# Altium schematic symbol library Motor_Driver_Module.SCHLIB: 25 symbols
Pins are listed as number, name and electrical type; pins without a type are passive.

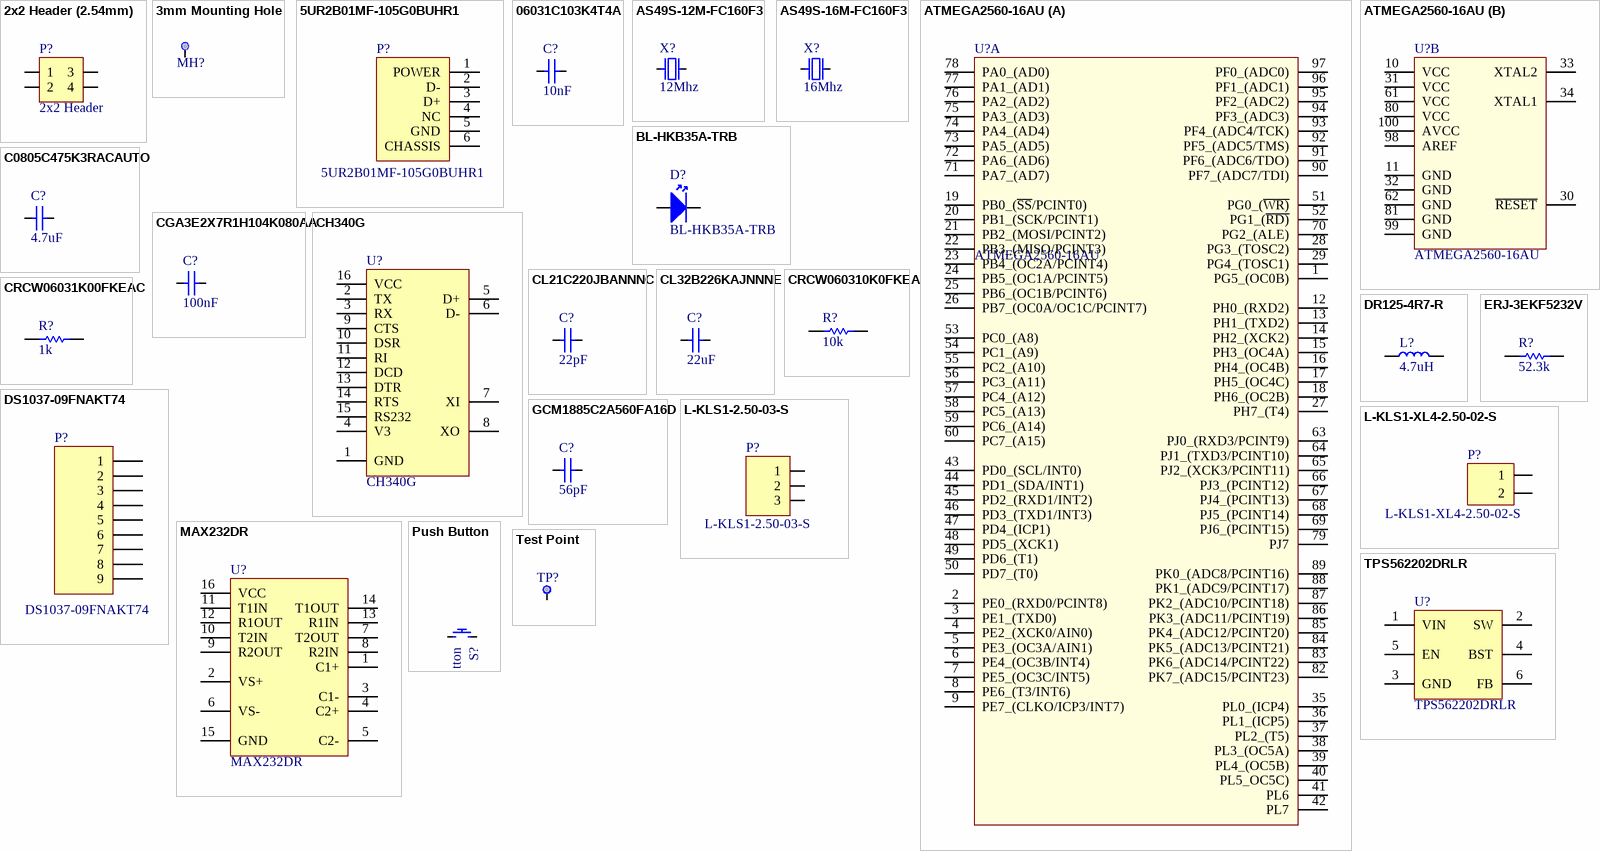
[diagram p0: symbols 2x2 Header (2.54mm) to TPS562202DRLR]

## 2x2 Header (2.54mm)
designator P?, comment 2x2 Header
Library Reference: Connector; Gender: Male; Contact Number: 4; Number of Row: 2; Mounting Angle: 180; Pitch: 2.54mm; Man Code: 2x2 Header; Footprint: 2x2 Header (2.54mm); Component Type: Header; Manufacturer: -; Mating Connector: -; Mounting Style: Through Hole; Current(max): -; Contact Resistance(max): -
footprint 2x2 Header (2.54mm)
pins: 1, 2, 3, 4

## 3mm Mounting Hole
designator MH?  (value not drawn)  (no BOM)
Library Reference: Miscellaneous; Footprint: 3mm Mounting Hole; Component Type: Mounting Hole
footprint 3mm Mounting Hole
pins: 1

## 5UR2B01MF-105G0BUHR1
designator P?
Manufacturer: AMTEK; Library Reference: Connector; Mating Connector: MICRO USB B; Gender: Female; Contact Number: 5; Number of Row: 1; Mounting Angle: 90; Current(max): 1A; Contact Resistance(max): 30mohm; Pitch: 0.65mm; Man Code: 5UR2B01MF-105G0BUHR1; Footprint: MICRO USB B SMD; Component Type: MICRO USB B Connector; Mounting Style: SMD
footprint MICRO USB B SMD
pins: 1 POWER, 2 D-, 3 D+, 4 NC, 5 GND, 6 CHASSIS

## 06031C103K4T4A
designator C?, comment 10nF
Manufacturer: AVX; Man Code: 06031C103K4T4A; Temperature Coefficient: X7R; Voltage: 100V; Library Reference: Capacitor; Tolerance: %10; Value: 10nF; Footprint: 0603; Component Type: Ceramic Capacitor
footprint CAP-0603
pins: 1, 2

## AS49S-12M-FC160F3
designator X?, comment 12Mhz
Manufacturer: ANSEN; Man Code: AS49S-12M-FC160F3; Frequency Tolerance: 20ppm; Frequency Stability: 50ppm; Library Reference: Miscellaneous; Capacitance: 16pF; ESR: 40ohm; Value: 12Mhz; Footprint: THT (11.5*5.00*3.60); Component Type: Crystal Oscillator
footprint OSC-THT (11.5*5.00*3.60)
pins: 1, 2

## AS49S-16M-FC160F3
designator X?, comment 16Mhz
Manufacturer: ANSEN; Man Code: AS49S-16M-FC160F3; Frequency Tolerance: 20ppm; Frequency Stability: 50ppm; Library Reference: Miscellaneous; Capacitance: 16pF; ESR: 30ohm; Value: 16Mhz; Component Type: Crystal Oscillator; Footprint: THT (11.5*5.00*3.60)
footprint OSC-THT (11.5*5.00*3.60)
pins: 1, 2

## ATMEGA2560-16AU
designator U?
Manufacturer: Microchip; Library Reference: Integrated_Circuit; Number Of Bits: 8-Bit; Speed: 16Mhz; Program Memory Size: 256KB; Supply Voltage: 4.5V - 5.5V; Footprint: TQFP-100 Microchip; Component Type: Microcontroller; Man Code: ATMEGA2560-16AU
footprint TQFP-100 Microchip
part A pins: 1 PG5_(OC0B), 2 PE0_(RXD0/PCINT8), 3 PE1_(TXD0), 4 PE2_(XCK0/AIN0), 5 PE3_(OC3A/AIN1), 6 PE4_(OC3B/INT4), 7 PE5_(OC3C/INT5), 8 PE6_(T3/INT6), 9 PE7_(CLKO/ICP3/INT7), 12 PH0_(RXD2), 13 PH1_(TXD2), 14 PH2_(XCK2), 15 PH3_(OC4A), 16 PH4_(OC4B), 17 PH5_(OC4C), 18 PH6_(OC2B), 19 PB0_(~{SS}/PCINT0), 20 PB1_(SCK/PCINT1), 21 PB2_(MOSI/PCINT2), 22 PB3_(MISO/PCINT3), 23 PB4_(OC2A/PCINT4), 24 PB5_(OC1A/PCINT5), 25 PB6_(OC1B/PCINT6), 26 PB7_(OC0A/OC1C/PCINT7), 27 PH7_(T4), 28 PG3_(TOSC2), 29 PG4_(TOSC1), 35 PL0_(ICP4), 36 PL1_(ICP5), 37 PL2_(T5), 38 PL3_(OC5A), 39 PL4_(OC5B), 40 PL5_OC5C), 41 PL6, 42 PL7, 43 PD0_(SCL/INT0), 44 PD1_(SDA/INT1), 45 PD2_(RXD1/INT2), 46 PD3_(TXD1/INT3), 47 PD4_(ICP1), 48 PD5_(XCK1), 49 PD6_(T1), 50 PD7_(T0), 51 PG0_(~{WR)}, 52 PG1_(~{RD)}, 53 PC0_(A8), 54 PC1_(A9), 55 PC2_(A10), 56 PC3_(A11), 57 PC4_(A12), 58 PC5_(A13), 59 PC6_(A14), 60 PC7_(A15), 63 PJ0_(RXD3/PCINT9), 64 PJ1_(TXD3/PCINT10), 65 PJ2_(XCK3/PCINT11), 66 PJ3_(PCINT12), 67 PJ4_(PCINT13), 68 PJ5_(PCINT14), 69 PJ6_(PCINT15), 70 PG2_(ALE), 71 PA7_(AD7), 72 PA6_(AD6), 73 PA5_(AD5), 74 PA4_(AD4), 75 PA3_(AD3), 76 PA2_(AD2), 77 PA1_(AD1), 78 PA0_(AD0), 79 PJ7, 82 PK7_(ADC15/PCINT23), 83 PK6_(ADC14/PCINT22), 84 PK5_(ADC13/PCINT21), 85 PK4_(ADC12/PCINT20), 86 PK3_(ADC11/PCINT19), 87 PK2_(ADC10/PCINT18), 88 PK1_(ADC9/PCINT17), 89 PK0_(ADC8/PCINT16), 90 PF7_(ADC7/TDI), 91 PF6_(ADC6/TDO), 92 PF5_(ADC5/TMS), 93 PF4_(ADC4/TCK), 94 PF3_(ADC3), 95 PF2_(ADC2), 96 PF1_(ADC1), 97 PF0_(ADC0)
part B pins: 10 VCC, 11 GND, 30 ~{RESET}, 31 VCC, 32 GND, 33 XTAL2, 34 XTAL1, 61 VCC, 62 GND, 80 VCC, 81 GND, 98 AREF, 99 GND, 100 AVCC

## BL-HKB35A-TRB
designator D?
Manufacturer: BRIGHT LED; Colour: Yellow; Vf: 2.2V; Library Reference: Miscellaneous; Luminous Intensity: 94mcd; If: 20mA; Lens Transparency: Water Clear; Man Code: BL-HKB35A-TRB; Footprint: 0805; Component Type: Led
footprint LED-0805
pins: 1 A, 2 K

## C0805C475K3RACAUTO
designator C?, comment 4.7uF
Manufacturer: Kemet; Man Code: C0805C475K3RACAUTO; Temperature Coefficient: X7R; Voltage: 25V; Library Reference: Capacitor; Tolerance: %10; Value: 4.7uF; Footprint: 0805; Component Type: Ceramic Capacitor
footprint CAP-0805
pins: 1, 2

## CGA3E2X7R1H104K080AA
designator C?, comment 100nF
Manufacturer: TDK; Man Code: CGA3E2X7R1H104K080AA; Temperature Coefficient: X7R; Voltage: 50V; Library Reference: Capacitor; Tolerance: %10; Value: 100nF; Footprint: 0603; Component Type: Ceramic Capacitor
footprint CAP-0603
pins: 1, 2

## CH340G
designator U?
Library Reference: Integrated_Circuit; Man Code: CH340G; Footprint: 16-SOIC; Component Type: USB-TTL Converter
footprint 16-SOIC_CH340G
pins: 1 GND, 2 TX, 3 RX, 4 V3, 5 D+, 6 D-, 7 XI, 8 XO, 9 CTS, 10 DSR, 11 RI, 12 DCD, 13 DTR, 14 RTS, 15 RS232, 16 VCC

## CL21C220JBANNNC
designator C?, comment 22pF
Manufacturer: Samsung Electro-Mechanics; Man Code: CL21C220JBANNNC; Temperature Coefficient: C0G; Voltage: 50V; Library Reference: Capacitor; Tolerance: %5; Value: 22pF; Footprint: 0805; Component Type: Ceramic Capacitor
footprint CAP-0805
footprint CAP-0805
pins: 1, 2

## CL32B226KAJNNNE
designator C?, comment 22uF
Manufacturer: Samsung Electro-Mechanics; Man Code: CL32B226KAJNNNE; Temperature Coefficient: X7R; Voltage: 25V; Library Reference: Capacitor; Tolerance: %10; Value: 22uF; Footprint: 1210; Component Type: Ceramic Capacitor
footprint CAP-1210
pins: 1, 2

## CRCW06031K00FKEAC
designator R?, comment 1k
Manufacturer: Vishay; Man Code: CRCW06031K00FKEAC; Tolerance: %1; Power: 0.1W; Library Reference: Resistor; Value: 1k; Footprint: 0603; Component Type: Chip Resistor
footprint RES-0603
pins: 1, 2

## CRCW060310K0FKEA
designator R?, comment 10k
Manufacturer: Vishay; Man Code: CRCW060310K0FKEA; Tolerance: %1; Power: 0.1W; Library Reference: Resistor; Value: 10k; Footprint: 0603; Component Type: Chip Resistor
footprint RES-0603
pins: 1, 2

## DR125-4R7-R
designator L?, comment 4.7uH
Manufacturer: Eaton; Man Code: DR125-4R7-R; Max Dc Resistance: 10.5mOhm; Tolerance: %20; Max DC Current: 7.18A; Library Reference: Inductor; Value: 4.7uH; Footprint: Surface Mount (12.5mm* 12.5mm); Component Type: Fixed Inductor
footprint IND_EATON_DR125-4R7-R
pins: 1, 2

## DS1037-09FNAKT74
designator P?
Manufacturer: CONNFLY; Library Reference: Connector; Mating Connector: L-KLS1-213-09-M-L; Gender: Female; Contact Number: 9; Number of Row: 2; Mounting Angle: 90; Current(max): 1.5A; Contact Resistance(max): 20mohm; Pitch: 2.77mm; Man Code: DS1037-09FNAKT74; Footprint: D SUB 9PIN FEMALE 90C TH; Component Type: D SUB 9 PIN Female Connector; Mounting Style: Through Hole
footprint D SUB 9PIN FEMALE 90C TH
pins: 1, 2, 3, 4, 5, 6, 7, 8, 9

## ERJ-3EKF5232V
designator R?, comment 52.3k
Manufacturer: Panasonic; Man Code: ERJ-3EKF5232V; Tolerance: %1; Power: 0.1W; Library Reference: Resistor; Value: 52.3k; Footprint: 0603; Component Type: Chip Resistor
footprint RES-0603
pins: 1, 2

## GCM1885C2A560FA16D
designator C?, comment 56pF
Manufacturer: Murata; Man Code: GCM1885C2A560FA16D; Library Reference: Capacitor; Tolerance: %1; Temperature Coefficient: C0G; Voltage: 100V; Value: 56pF; Footprint: 0603; Component Type: Ceramic Capacitor
footprint CAP-0603
pins: 1, 2

## L-KLS1-2.50-03-S
designator P?
Manufacturer: KLS ELECTRONIC; Library Reference: Connector; Mating Connector: L-KLS1-2.50-03-H; Gender: Male; Contact Number: 3; Number of Row: 1; Mounting Angle: 180; Current(max): 3A; Contact Resistance(max): 10mohm; Pitch: 2.5mm; Man Code: L-KLS1-2.50-03-S; Footprint: 3PIN MALE 180C TH 2.5mm; Component Type: CONN 3PIN MALE 180C TH 2.5mm; Mounting Style: Through Hole
footprint 3PIN MALE 180C TH 2.5mm
pins: 1, 2, 3

## L-KLS1-XL4-2.50-02-S
designator P?
Manufacturer: KLS ELECTRONIC; Contact Number: 3; Contact Resistance (Max): 10mohm; Current(Max): 3A; Gender: Male; Mounting Angle: 180; Number of Row: 1; Pitch: 2.50mm; Component Type: CONN 2PIN MALE 180C TH 2.5mm; Mounting Style: THT; Man Code: L-KLS1-XL4-2.50-02-S
footprint 2 PIN MALE 180C TH 2.50MM
pins: 1, 2

## MAX232DR
designator U?
Manufacturer: Texas Instruments; Library Reference: Integrated_Circuit; Data Rate: 120Kbps; Supply Voltage: 4.5V - 5.5V; Man Code: MAX232DR; Footprint: 16-SOIC; Component Type: RS-232 Transceiver
footprint 16-SOIC_MAX232DR
pins: 1 C1+, 2 VS+, 3 C1-, 4 C2+, 5 C2-, 6 VS-, 7 T2OUT, 8 R2IN, 9 R2OUT, 10 T2IN, 11 T1IN, 12 R1OUT, 13 R1IN, 14 T1OUT, 15 GND, 16 VCC

## Push Button
designator S?  (no BOM)
Library Reference: Other Switches; Component Type: Push Button; Footprint: 2.54mm_Push Button
footprint 2.54mm_Push Button
pins: 1, 2

## Test Point
designator TP?  (value not drawn)  (no BOM)
Library Reference: Miscellaneous; Footprint: 0.8mm Test Point; Component Type: Test Point
footprint 0.8mm Test Point
pins: 1

## TPS562202DRLR
designator U?
Manufacturer: Texas Instruments; Library Reference: Integrated_Circuit; Man Code: TPS562202DRLR; Footprint: SOT-563; Component Type: Switcher
footprint SOT-563
pins: 1 VIN, 2 SW, 3 GND, 4 BST, 5 EN, 6 FB